# Altium footprint library MT3608.PcbLib: 1 footprints
Each footprint in its own frame and in the unit in brackets; x right, y up, seen from the top. Pads: shape width x height; smd on the part's side, far side on the other; paste and mask are expansions set on the pad; w line width, h text height; cw(c..) or ccw(c..) is an arc to the next point about the centre after c.
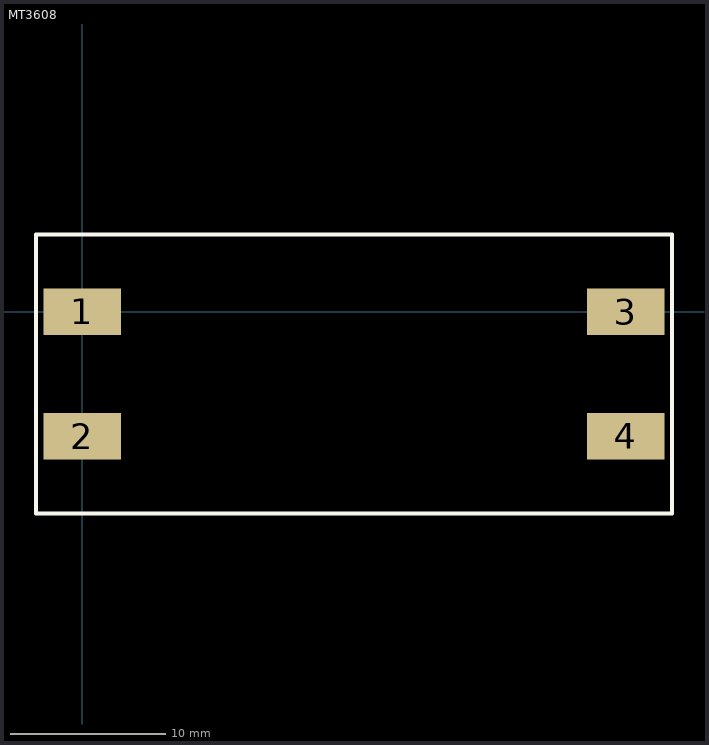
[diagram p0: the footprint, top view; thin cyan lines are the x and y axes]

## MT3608 [mm]
pads (4):
  rect 5x3 smd: 1(0,0) 2(0,-8) 3(35,0) 4(35,-8)
Top Overlay:
  lines w0.254: -3,-13 38,-13 38,5 35,5 -3,5 -3,-13